# Altium schematic symbol library MT25QL512ABB8ESF-0SITTR.SchLib: 1 symbol
Pins are listed as number, name and electrical type; pins without a type are passive.

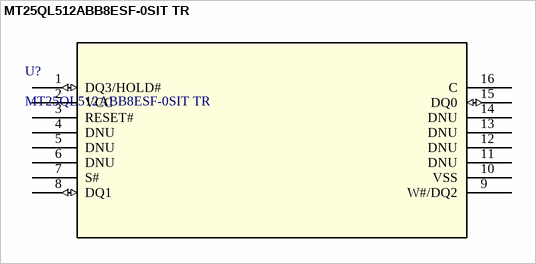
[diagram p0: symbol MT25QL512ABB8ESF-0SIT TR]

## MT25QL512ABB8ESF-0SIT TR
designator U?
No Description Available; Manufacturer_Name: Micron; Copyright: Copyright (C) 2025 Ultra Librarian. All rights reserved.; Manufacturer_Part_Number: MT25QL512ABB8ESF-0SIT TR; RefDes: RefDes; Type: Type
footprint SOP2-16_7P5X10P3_MRN
pins: 1 DQ3/HOLD# (io), 2 VCC (power), 3 RESET#, 4 DNU, 5 DNU, 6 DNU, 7 S#, 8 DQ1 (io), 9 W#/DQ2, 10 VSS (power), 11 DNU, 12 DNU, 13 DNU, 14 DNU, 15 DQ0 (io), 16 C